# Altium schematic symbol library BalanceCar.SchLib: 13 symbols
Pins are listed as number, name and electrical type; pins without a type are passive.

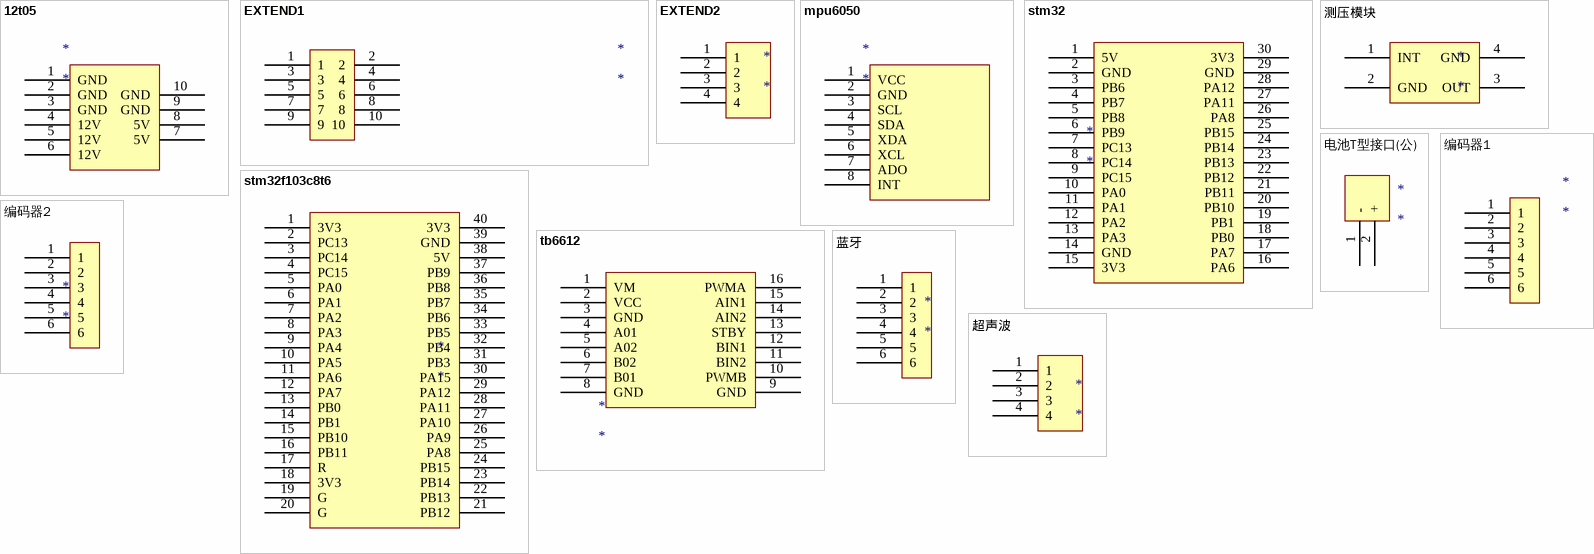
[diagram p0: symbols 12t05 to 超声波]

## 12t05
designator *
pins: 1 GND, 2 GND, 3 GND, 4 12V, 5 12V, 6 12V, 7 5V, 8 5V, 9 GND, 10 GND

## EXTEND1
designator *
pins: 1, 2, 3, 4, 5, 6, 7, 8, 9, 10

## EXTEND2
designator *
pins: 1, 2, 3, 4

## mpu6050
designator *
pins: 1 VCC, 2 GND, 3 SCL, 4 SDA, 5 XDA, 6 XCL, 7 ADO, 8 INT

## stm32
designator *
pins: 1 5V, 2 GND, 3 PB6, 4 PB7, 5 PB8, 6 PB9, 7 PC13, 8 PC14, 9 PC15, 10 PA0, 11 PA1, 12 PA2, 13 PA3, 14 GND, 15 3V3, 16 PA6, 17 PA7, 18 PB0, 19 PB1, 20 PB10, 21 PB11, 22 PB12, 23 PB13, 24 PB14, 25 PB15, 26 PA8, 27 PA11, 28 PA12, 29 GND, 30 3V3

## stm32f103c8t6
designator *
pins: 1 3V3, 2 PC13, 3 PC14, 4 PC15, 5 PA0, 6 PA1, 7 PA2, 8 PA3, 9 PA4, 10 PA5, 11 PA6, 12 PA7, 13 PB0, 14 PB1, 15 PB10, 16 PB11, 17 R, 18 3V3, 19 G, 20 G, 21 PB12, 22 PB13, 23 PB14, 24 PB15, 25 PA8, 26 PA9, 27 PA10, 28 PA11, 29 PA12, 30 PA15, 31 PB3, 32 PB4, 33 PB5, 34 PB6, 35 PB7, 36 PB8, 37 PB9, 38 5V, 39 GND, 40 3V3

## tb6612
designator *
pins: 1 VM, 2 VCC, 3 GND, 4 A01, 5 A02, 6 B02, 7 B01, 8 GND, 9 GND, 10 PWMB, 11 BIN2, 12 BIN1, 13 STBY, 14 AIN2, 15 AIN1, 16 PWMA

## 测压模块
designator *
pins: 1 INT, 2 GND, 3 OUT, 4 GND

## 电池T型接口(公)
designator *
pins: 1 -, 2 +

## 编码器1
designator *
pins: 1, 2, 3, 4, 5, 6

## 编码器2
designator *
pins: 1, 2, 3, 4, 5, 6

## 蓝牙
designator *
pins: 1, 2, 3, 4, 5, 6

## 超声波
designator *
pins: 1, 2, 3, 4